# Altium schematic symbol library OpenMV.SchLib: 1 symbol
Pins are listed as number, name and electrical type; pins without a type are passive.

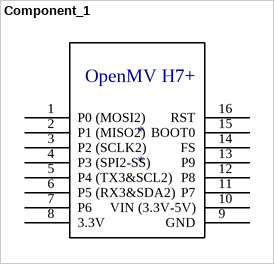
[diagram p0: symbol Component_1]

## Component_1
designator *
pins: 1 P0 (MOSI2), 2 P1 (MISO2), 3 P2 (SCLK2), 4 P3 (SPI2-SS), 5 P4 (TX3&SCL2), 6 P5 (RX3&SDA2), 7 P6, 8 3.3V, 9 GND, 10  VIN (3.3V-5V), 11 P7, 12 P8, 13 P9, 14 FS, 15 BOOT0, 16   RST
text: OpenMV H7+